# Altium schematic symbol library QUAD_SWITCH.SchLib: 1 symbol
Pins are listed as number, name and electrical type; pins without a type are passive.

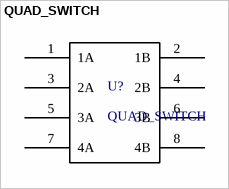
[diagram p0: symbol QUAD_SWITCH]

## QUAD_SWITCH
designator U?
Quad switch IC symbol
pins: 1 1A, 2 1B, 3 2A, 4 2B, 5 3A, 6 3B, 7 4A, 8 4B